# Altium schematic symbol library LED_1206_YELLOW.SchLib: 1 symbol
Pins are listed as number, name and electrical type; pins without a type are passive.

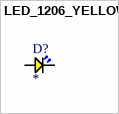
[diagram p0: symbol LED_1206_YELLOW]

## LED_1206_YELLOW
designator D?
Colorless Transparent Lens 589nm~591nm Positive Stick Yellow 120° 1206 LED Indication - Discrete ROHS; Manufacturer: XINGLIGHT; Manufacturer Part: XL-3216UYC; Forward Current: *; Forward Voltage: *; ComponentLink1Description: Datasheet; ComponentLink1URL: https://www.lcsc.com/datasheet/lcsc_datasheet_2504101957_XINGLIGHT-XL-3216UYC_C965824.pdf
footprint LED_1206_YELLOW
pins: 1, 2